# Altium integrated library SIM-9-C.IntLib: 1 symbol
Pins are listed as number, name and electrical type; pins without a type are passive.

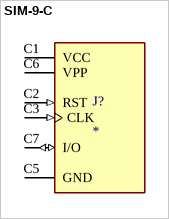
[diagram p0: symbol SIM-9-C]

## SIM-9-C
designator J?
MP: SIM-9-C; Package: None; Price: None; Value: *; Availability: Unavailable
footprint CUI_SIM-9-C
pins: C1 VCC (power), C2 RST (in), C3 CLK (in), C5 GND (power), C6 VPP (power), C7 I/O (io)